# EAGLE library part BMP085 (library 1AA_Stofer)
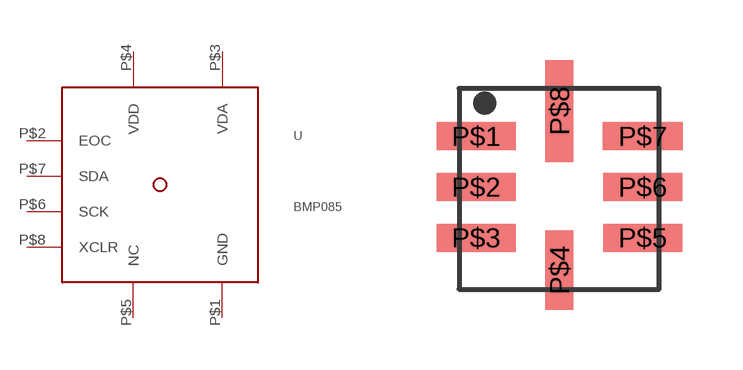
[diagram p15: symbol with the pads of LCC8; footprint LCC8]

Designator prefix -

## BMP085  [LCC8]
P$1  GND  pwr
P$2  EOC  out
P$3  VDA  pwr
P$4  VDD  pwr
P$5  NC  nc
P$6  SCK  in
P$7  SDA
P$8  XCLR  in

## Footprint LCC8 (pad centres in mm)
smd 1.981 x 0.7: P$1 -0.178,0; P$2 -0.178,-1.27; P$3 -0.178,-2.54; P$5 3.988,-2.54; P$6 3.988,-1.27
smd 0.7 x 1.981: P$4 1.905,-3.353
smd 2.007 x 0.7: P$7 3.988,0
smd 0.7 x 2.55: P$8 1.905,0.635